# EAGLE library part PCA10028 (library Chadgra-Bluetooth)
nRF51 Development Kit - PCA10028
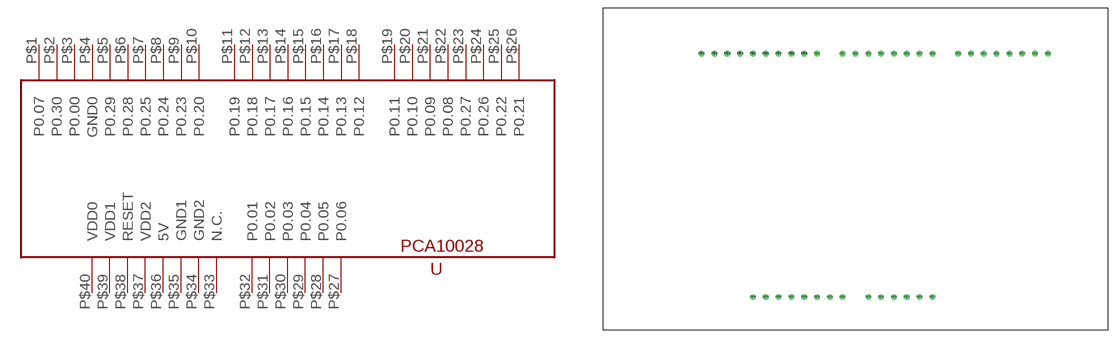
[diagram p1: symbol with the pads of PCA10028; footprint PCA10028]

Designator prefix -

## PCA10028  [PCA10028]
P$1  P0.07
P$2  P0.30
P$3  P0.00
P$4  GND0
P$5  P0.29
P$6  P0.28
P$7  P0.25
P$8  P0.24
P$9  P0.23
P$10  P0.20
P$11  P0.19
P$12  P0.18
P$13  P0.17
P$14  P0.16
P$15  P0.15
P$16  P0.14
P$17  P0.13
P$18  P0.12
P$19  P0.11
P$20  P0.10
P$21  P0.09
P$22  P0.08
P$23  P0.27
P$24  P0.26
P$25  P0.22
P$26  P0.21
P$27  P0.06
P$28  P0.05
P$29  P0.04
P$30  P0.03
P$31  P0.02
P$32  P0.01
P$33  N.C.
P$34  GND2
P$35  GND1
P$36  5V
P$37  VDD2
P$38  RESET
P$39  VDD1
P$40  VDD0

## Footprint PCA10028 (pad centres in mm)
drill 0.6: P$1 -30.48,22.86; P$2 -27.94,22.86; P$3 -25.4,22.86; P$4 -22.86,22.86; P$5 -20.32,22.86; P$6 -17.78,22.86; P$7 -15.24,22.86; P$8 -12.7,22.86; P$9 -10.16,22.86; P$10 -7.62,22.86; P$11 -2.54,22.86; P$12 0,22.86; P$13 2.54,22.86; P$14 5.08,22.86; P$15 7.62,22.86; P$16 10.16,22.86; P$17 12.7,22.86; P$18 15.24,22.86; P$19 20.32,22.86; P$20 22.86,22.86; P$21 25.4,22.86; P$22 27.94,22.86; P$23 30.48,22.86; P$24 33.02,22.86; P$25 35.56,22.86; P$26 38.1,22.86; P$27 15.24,-25.4; P$28 12.7,-25.4; P$29 10.16,-25.4; P$30 7.62,-25.4; P$31 5.08,-25.4; P$32 2.54,-25.4; P$33 -2.54,-25.4; P$34 -5.08,-25.4; P$35 -7.62,-25.4; P$36 -10.16,-25.4; P$37 -12.7,-25.4; P$38 -15.24,-25.4; P$39 -17.78,-25.4; P$40 -20.32,-25.4